# Altium schematic symbol library Passives.SchLib: 14 symbols
Pins are listed as number, name and electrical type; pins without a type are passive.

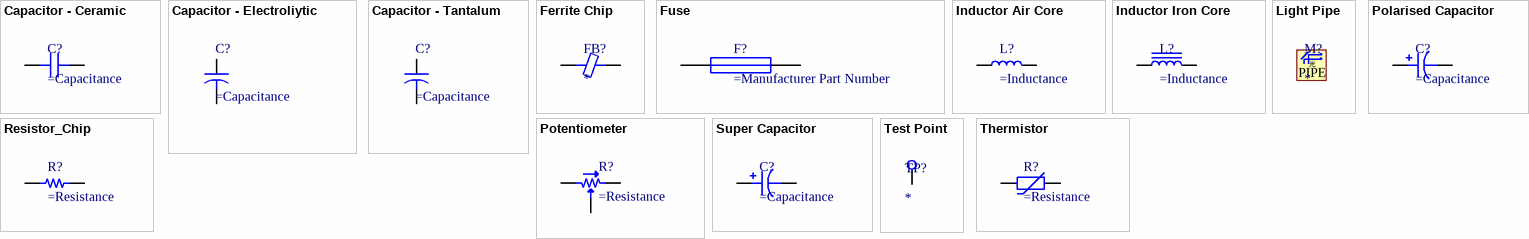
[diagram p0: symbols Capacitor - Ceramic to Thermistor]

## Capacitor - Ceramic
designator C?
Ceramic, SMT Capacitor
footprint CAP 0201/0603 (Chip Capacitor, 2-Leads, Body 0.60x0.30mm, IPC Medium Density)
footprint CAP 0201/0603 RF (Chip Capacitor, 2-Leads, Body 0.60x0.30mm, IPC High Density)
footprint CAP 0402/1005 (Chip Capacitor, 2-Leads, Body 1.02x0.51mm, IPC Medium Density)
footprint CAP 0402/1005 RF (Chip Capacitor, 2-Leads, Body 1.02x0.51mm, IPC High Density)
footprint CAP 0603/1608 (Chip Capacitor, 2-Leads, Body 1.60x0.80mm, IPC Medium Density)
footprint CAP 0603/1608 RF (Chip Capacitor, 2-Leads, Body 1.60x0.80mm, IPC High Density)
footprint CAP 0805/2012 (Chip Capacitor, 2-Leads, Body 2.00x1.20mm, IPC Medium Density)
footprint CAP 0805/2012 RF (Chip Capacitor, 2-Leads, Body 2.00x1.20mm, IPC High Density)
footprint CAP 1206/3216 (Chip Capacitor, 2-Leads, Body 3.25x1.60mm, IPC Medium Density)
footprint CAP 1206/3216 - 0.8MM (Chip Capacitor, 2-Leads, Body 3.25x1.60mm, IPC Medium Density)
footprint CAP 1206/3216 - 1.0MM (Chip Capacitor, 2-Leads, Body 3.25x1.60mm, IPC Medium Density)
footprint CAP 1206/3216 - 1.2MM (Chip Capacitor, 2-Leads, Body 3.25x1.60mm, IPC Medium Density)
footprint CAP 1206/3216 - 1.8MM (Chip Capacitor, 2-Leads, Body 3.25x1.60mm, IPC Medium Density)
footprint CAP 1210/3225 - 1MM (Chip Capacitor, 2-Leads, Body 3.20x2.50mm, IPC Medium Density)
footprint CAP 1210/3225 - 1.2MM (Chip Capacitor, 2-Leads, Body 3.20x2.50mm, IPC Medium Density)
footprint CAP 1210/3225 - 1.4MM (Chip Capacitor, 2-Leads, Body 3.20x2.50mm, IPC Medium Density)
footprint CAP 1210/3225 - 1.6MM (Chip Capacitor, 2-Leads, Body 3.20x2.50mm, IPC Medium Density)
footprint CAP 1210/3225 - 1.8MM (Chip Capacitor, 2-Leads, Body 3.20x2.50mm, IPC Medium Density)
footprint CAP 1210/3225 - 2.0MM (Chip Capacitor, 2-Leads, Body 3.20x2.50mm, IPC Medium Density)
footprint CAP 1210/3225 - 2.2MM (Chip Capacitor, 2-Leads, Body 3.20x2.50mm, IPC Medium Density)
footprint CAP 1210/3225 - 2.5MM (Chip Capacitor, 2-Leads, Body 3.20x2.50mm, IPC Medium Density)
footprint CAP 1210/3225 - 2.8MM (Chip Capacitor, 2-Leads, Body 3.20x2.50mm, IPC Medium Density)
footprint CAP 1812/4532 1.1MM (Chip Capacitor, 2-Leads, Body 4.50x3.20mm, IPC Medium Density)
footprint CAP 1812/4532 1.35MM (Chip Capacitor, 2-Leads, Body 4.50x3.20mm, IPC Medium Density)
footprint CAP 1812/4532 1.5MM (Chip Capacitor, 2-Leads, Body 4.50x3.20mm, IPC Medium Density)
footprint CAP 1812/4532 1.75MM (Chip Capacitor, 2-Leads, Body 4.50x3.20mm, IPC Medium Density)
footprint CAP 1812/4532 2.00MM (Chip Capacitor, 2-Leads, Body 4.50x3.20mm, IPC Medium Density)
footprint CAP 1812/4532 2.20MM (Chip Capacitor, 2-Leads, Body 4.50x3.20mm, IPC Medium Density)
footprint CAP 1812/4532 2.55MM (Chip Capacitor, 2-Leads, Body 4.50x3.20mm, IPC Medium Density)
footprint CAP 1812/4532 2.8MM (Chip Capacitor, 2-Leads, Body 4.50x3.20mm, IPC Medium Density)
footprint CAP 1812/4532 3.5MM (Chip Capacitor, 2-Leads, Body 4.50x3.20mm, IPC Medium Density)
footprint CAP 1812/4532 (Ceramic Capacitors, body 4.5x3.2mm)
pins: 1, 2

## Capacitor - Electroliytic
designator C?
Capacitor, Electrolytic
footprint CAP AL TH D10 L5 H17.5 (10MM Diameter, 5MM Lead Spacing Aluminium Capacitor)
footprint CAP AL TH D10 L5 H30 (10MM Diameter, 5MM Lead Spacing Aluminium Capacitor)
footprint CAP AL TH D10 L5 H14.5 (10MM Diameter, 5MM Lead Spacing Aluminium Capacitor)
footprint CAP AL TH D10 L5 H22 (10MM Diameter, 5MM Lead Spacing Aluminium Capacitor)
footprint CAP AL TH D12.5 L5 H22 (12.5MM Diameter, 5MM Lead Spacing Aluminium Capacitor)
footprint CAP AL TH D12.5 L5 H21.5 (12.5MM Diameter, 5MM Lead Spacing Aluminium Capacitor)
footprint CAP AL TH D12.5 L5 H16.5 (12.5MM Diameter, 5MM Lead Spacing Aluminium Capacitor)
footprint CAP AL TH D12.5 L5 H14 (12.5MM Diameter, 5MM Lead Spacing Aluminium Capacitor)
footprint CAP AL TH D12.5 L5 H15 (12.5MM Diameter, 5MM Lead Spacing Aluminium Capacitor)
footprint CAP AL TH D12.5 L5 H17.5 (12.5MM Diameter, 5MM Lead Spacing Aluminium Capacitor)
footprint CAP AL TH D12.5 L5 H20 (12.5MM Diameter, 5MM Lead Spacing Aluminium Capacitor)
footprint CAP ALUM 6.6MM (Aluminum Electrolytic Capacitor, Body 6.60x6.60x7.70mm, IPC Low Density)
footprint CAP ALUM 8.3MM (Aluminum Electrolytic Capacitor, Body 8.30x8.30x10.50mm, IPC Low Density)
footprint CAP ALUM 10.3MM (Aluminum Electrolytic Capacitor, Body 10.30x10.30x10.50mm, IPC Low Density)
footprint CAP AL TH D10 L5 H12.5 (10MM Diameter, 5MM Lead Spacing Aluminium Capacitor)
footprint CAP AL TH D12.5 L5 H25 (12.5MM Diameter, 5MM Lead Spacing Aluminium Capacitor)
footprint CAP AL TH D12.5 L5 H26.5 (12.5MM Diameter, 5MM Lead Spacing Aluminium Capacitor)
footprint CAP AL TH D12.5 L5 H27 (12.5MM Diameter, 5MM Lead Spacing Aluminium Capacitor)
footprint CAP AL TH D12.5 L5 H35.5 (12.5MM Diameter, 5MM Lead Spacing Aluminium Capacitor)
footprint CAP AL TH D16 L7.5 H16.5 (16MM Diameter, 7.5MM Lead Spacing Aluminium Capacitor)
footprint CAP AL TH D16 L7.5 H20 (16MM Diameter, 7.5MM Lead Spacing Aluminium Capacitor)
footprint CAP AL TH D16 L7.5 H22 (16MM Diameter, 7.5MM Lead Spacing Aluminium Capacitor)
footprint CAP AL TH D16 L7.5 H26.5 (16MM Diameter, 7.5MM Lead Spacing Aluminium Capacitor)
footprint CAP AL TH D16 L7.5 H27 (16MM Diameter, 7.5MM Lead Spacing Aluminium Capacitor)
footprint CAP AL TH D16 L7.5 H33.5 (16MM Diameter, 7.5MM Lead Spacing Aluminium Capacitor)
footprint CAP AL TH D16 L7.5 H37 (16MM Diameter, 7.5MM Lead Spacing Aluminium Capacitor)
footprint CAP AL TH D22 L10 H14.5 (16MM Diameter, 7.5MM Lead Spacing Aluminium Capacitor)
footprint CAP AL TH D22 L10 H33 (16MM Diameter, 7.5MM Lead Spacing Aluminium Capacitor)
footprint CAP AL TH D22 L10 H43 (16MM Diameter, 7.5MM Lead Spacing Aluminium Capacitor)
footprint CAP AL TH D22 L10 H53 (16MM Diameter, 7.5MM Lead Spacing Aluminium Capacitor)
footprint CAP AL TH D25 L12.5 H14.5 (16MM Diameter, 7.5MM Lead Spacing Aluminium Capacitor)
footprint CAP AL TH D25 L12.5 H32 (16MM Diameter, 7.5MM Lead Spacing Aluminium Capacitor)
footprint CAP AL TH D25 L12.5 H42 (16MM Diameter, 7.5MM Lead Spacing Aluminium Capacitor)
footprint CAP AL TH D25 L12.5 H52 (16MM Diameter, 7.5MM Lead Spacing Aluminium Capacitor)
footprint CAP AL TH D6.3 L2.5 H11 (6.3MM Diameter, 2.5MM Lead Spacing Aluminium Capacitor)
pins: 1, 2

## Capacitor - Tantalum
designator C?
Capacitor, Tantalum
footprint CAP POL 2012X150USR (Molded body capacitor, Body 2.0x1.2mm, 0805, IPC Medium Density)
footprint CAP POL 2917/7343 (Molded Capacitor, 2-Leads, Body 7.30x4.30mm, IPC Medium Density)
footprint CAP POL 3216X180N (Capacitor, polarized, Molded Body, EIA 535BAAC size A; 3.20mm L X 1.60mm W X 1.80mm H)
footprint CAP POL 3528X210N (Molded body capacitor, Body 3.5x2.8mm, 1210, IPC Nominal settings)
footprint CAP POL 6032X280N (Capacitor, polarized, Molded Body, EIA 535BAAC size C; 6.00mm L X 3.20mm W X 2.80mm H)
footprint CAP POL 7343X310N (Molded body capacitor, Body 7.3x4.3mm, 2917, IPC Nominal settings)
pins: 1, 2

## Ferrite Chip
designator FB?
SMT Ferrite Chip
footprint FER 0201/0603 (Chip Inductor, 2-Leads, Body 0.60x0.30mm, IPC Medium Density)
footprint FER 0402/1005 (Chip Ferrite, 2-Leads, Body 1.02x0.51mm, IPC Medium Density)
footprint FER 0603/1608 (Chip Ferrite, 2-Leads, Body 1.60x0.80mm, IPC Medium Density)
footprint FER 0805/2012 (Chip Ferrite, 2-Leads, Body 2.00x1.20mm, IPC Medium Density)
footprint FER 1206/3216
pins: 1, 2

## Fuse
designator F?
footprint FUSE 1206/3216 (Chip Resistor, 2-Leads, Body 3.13x1.55mm, IPC Medium Density)
footprint FUSE 0603/1608 (NTC Thermistor, 2-Leads, Body 1.60x0.80mm, IPC Medium Density)
pins: 1, 2

## Inductor Air Core
designator L?
footprint IND 0603/1608 RF (Chip Inductor, 2-Leads, Body 1.00x0.50mm, IPC High Density)
footprint IND 0402/1005 RF WW (Chip Inductor, 2-Leads, Body 1.00x0.50mm, IPC High Density)
footprint IND 0805/2012
footprint IND 0201/0603 (Chip Inductor, 2-Leads, Body 0.60x0.30mm, IPC Medium Density)
pins: 1, 2

## Inductor Iron Core
designator L?
footprint IND 0603/1608 RF (Chip Inductor, 2-Leads, Body 1.00x0.50mm, IPC High Density)
footprint IND 0402/1005 RF WW (Chip Inductor, 2-Leads, Body 1.00x0.50mm, IPC High Density)
footprint Taiyo Yuden NR5040T2R2N (Taiyo Yuden 4.90mm(L) x 4.90mm (W) x 4.10mm (H))
footprint BOURNS SRP5030T (Precision Wire Wound Inductor, 2-Leads, Body 5.70x5.20mm, IPC Medium Density)
footprint BOURNS SRR1280 (Precision Wire Wound Inductor, 2-Leads, Body 12.50x12.50mm, IPC Medium Density)
footprint BOURNS SRR6028 (Precision Wire Wound Inductor, 2-Leads, Body 6.80x6.80mm, IPC Medium Density)
footprint MURATA 1264EY-4R7M=P3
footprint TAIYO YUDEN MAMK2520T1R0M (Inductor, 2-Leads, Body 2.50x2.00mm, IPC Medium Density)
footprint TDK SPM3012 (Inductor, 2-Leads, Body 3.00x3.00mm, IPC Medium Density)
footprint TDK SPM3020-LR (Inductor, 2-Leads, Body 3.00x3.00mm, IPC Medium Density)
footprint TDK VLCF4024-2 (Precision Wire Wound Inductor, 2-Leads, Body 4.00x4.00mm, IPC Medium Density)
footprint TDK VLCF4028-2 (Precision Wire Wound Inductor, 2-Leads, Body 4.00x4.00mm, IPC Medium Density)
footprint TDK VLF252012MT (Inductor, 2-Leads, Body 2.00x2.50mm, IPC Medium Density)
footprint TDK VLF252015MT (Inductor, 2-Leads, Body 2.00x2.50mm, IPC Medium Density)
footprint TDK VLF403210MT (Precision Wire Wound Inductor, 2-Leads, Body 3.20x4.00mm, IPC Medium Density)
footprint TDK VLF403212MT (Precision Wire Wound Inductor, 2-Leads, Body 3.20x4.00mm, IPC Medium Density)
footprint TDK VLF403215MT (Precision Wire Wound Inductor, 2-Leads, Body 3.20x4.00mm, IPC Medium Density)
footprint TDK VLF504010MT (Wire Wound Inductor, 2-Leads, Body 4.00x5.00mm, IPC Medium Density)
footprint TDK VLF504012MT (Wire Wound Inductor, 2-Leads, Body 4.00x5.00mm, IPC Medium Density)
footprint TDK VLF504015MT (Wire Wound Inductor, 2-Leads, Body 4.00x5.00mm, IPC Medium Density)
footprint TDK VLS201612CX (Inductor, 2-Leads, Body 2.00x1.60mm, IPC Medium Density)
footprint TDK VLS201612HBX-1 (Inductor, 2-Leads, Body 2.00x1.60mm, IPC Medium Density)
footprint TDK VLS252010CX (Chip Inductor, 2-Leads, Body 2.50x2.00mm, IPC Medium Density)
footprint TDK VLS252010HBX-1 (Inductor, 2-Leads, Body 2.50x2.00mm, IPC Medium Density)
footprint TDK VLS252012CX (Inductor, 2-Leads, Body 2.50x2.00mm, IPC Medium Density)
footprint TDK VLS252012HBX-1 (Inductor, 2-Leads, Body 2.50x2.00mm, IPC Medium Density)
footprint WURTH 5040 (Wire Wound Inductor, 2-Leads, Body 5.60x5.30mm, IPC Medium Density)
footprint WURTH WE-HCI 7040
footprint WURTH WE-HCI 7050
footprint Recom RLS226
footprint VISHAY IHLP-2020CZ
footprint VISHAY IHLP2020CZER (IHLP2020CZER)
footprint BURNS SRN8040
pins: 1, 2

## Light Pipe
designator M?
text: 光; PIPE

## Polarised Capacitor
designator C?
SMT Polarised Capacitor
pins: 1, 2

## Potentiometer
designator R?
Potentiometer
pins: 1, 2, 3

## Resistor_Chip
designator R?
Ceramic, SMT Capacitor
footprint RES 0201/0603 (Chip Resistor, 2-Leads, Body 0.60x0.30mm, IPC Medium Density)
footprint RES 0402/1005 (Chip Resistor, 2-Leads, Body 1.0x0.5mm, IPC Medium Density)
footprint RES 0402/1005 RF (Chip Resistor, 2-Leads, Body 1.0x0.5mm, IPC High Density)
footprint RES 0603/1608 (Chip Resistor, 2-Leads, Body 1.60x0.80mm, IPC Medium Density)
footprint RES 0603/1608 RF (Chip Resistor, 2-Leads, Body 1.60x0.80mm, IPC High Density)
footprint RES 0805/2012 (Chip Resistor, 2-Leads, Body 2.00x1.25mm, IPC Medium Density)
footprint RES 0805/2012 RF (Chip Resistor, 2-Leads, Body 2.00x1.25mm, IPC High Density)
footprint RES 1206/3216 (Chip Resistor, 2-Leads, Body 3.13x1.55mm, IPC Medium Density)
footprint RES 1206/3216 (Chip Resistor, 2-Leads, Body 3.13x1.55mm, IPC Medium Density)
footprint RES 1206/3216 RF (Chip Resistor, 2-Leads, Body 3.13x1.55mm, IPC High Density)
footprint STACKPOLE CSR0402 (Chip Resistor, 2-Leads, Body 1.0x0.5mm, IPC Medium Density)
footprint STACKPOLE CSR0603 (Chip Resistor, 2-Leads, Body 1.60x0.80mm, IPC Medium Density)
footprint STACKPOLE CSR0805 (Chip Resistor, 2-Leads, Body 2.00x1.25mm, IPC Medium Density)
footprint STACKPOLE CSR1210 (Chip Resistor, 2-Leads, Body 3.1x2.6mm, IPC Medium Density)
footprint STACKPOLE CSR1206 (Chip Resistor, 2-Leads, Body 3.13x1.55mm, IPC Medium Density)
footprint STACKPOLE CSR2010 (Chip Resistor, 2-Leads, Body 5.00x2.54mm, IPC Medium Density)
footprint STACKPOLE CSRN2010 (Chip Resistor, 2-Leads, Body 5.00x2.54mm, IPC Medium Density)
footprint STACKPOLE CSRN2512 (Chip Resistor, 2-Leads, Body 6.40x3.20mm, IPC Medium Density)
footprint STACKPOLE CSR2512 (Chip Resistor, 2-Leads, Body 6.40x3.20mm, IPC Medium Density)
footprint RES 2817
footprint RES 2817-L
footprint RES 2817-M
footprint RES 2010/5025
pins: 1, 2

## Super Capacitor
designator C?
Super Capacitor
footprint KYOCERA SCMR22C155PRBA0 (Super Capacitor)
pins: 1, 2

## Test Point
designator TP?
pins: 1 TP

## Thermistor
designator R?
SMT Resistor
footprint NTC 0402/1005 (Chip Thermistor, 2-Leads, Body 1.00x0.50mm, IPC Medium Density)
footprint NTC 0603/1608 (NTC Thermistor, 2-Leads, Body 1.60x0.80mm, IPC Medium Density)
footprint NTC 0805/2012 (Chip Thermistor, 2-Leads, Body 2.00x1.25mm, IPC Medium Density)
footprint NTC 1206/3216 (Chip Resistor, 2-Leads, Body 3.13x1.55mm, IPC Medium Density)
pins: 1, 2